# Altium footprint library ERJ8EN_250mW.PcbLib: 3 footprints
Each footprint in its own frame and in the unit in brackets; x right, y up, seen from the top. Pads: shape width x height; smd on the part's side, far side on the other; paste and mask are expansions set on the pad; w line width, h text height; cw(c..) or ccw(c..) is an arc to the next point about the centre after c.
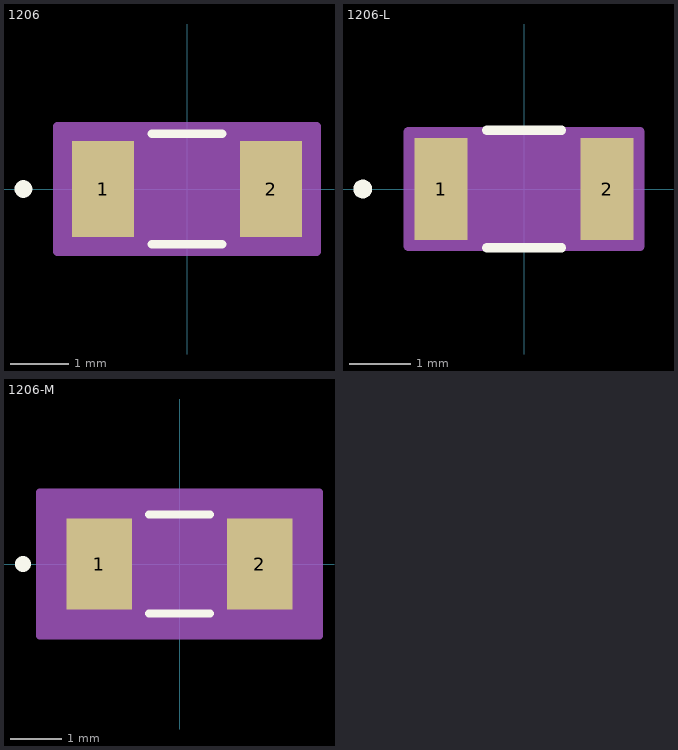
[diagram p0: the footprints below, top view; thin cyan lines are the x and y axes]

## 1206 [mil]
pads (2):
  rect 42x65 smd paste+0 mask+0: 1(-57,0) 2(57,0)
Top Overlay:
  circle w6: c-111,0 r3
  lines w6: -23.89,-37.5 23.89,-37.5 ; -23.89,37.5 23.89,37.5
Mechanical 13:
  circle w0: c-54,0 r3
  lines w1: -64,-32.5 -64,32.5 ; -64,-32.5 -36,-32.5 -36,32.5 -64,32.5 ; -64,-32.5 64,-32.5 ; -64,-32.5 -64,32.5 ; -64,32.5 64,32.5 ; 64,-32.5 36,-32.5 36,32.5 64,32.5 ; 64,-32.5 64,32.5 ; 64,-32.5 64,32.5
Mechanical 15:
  region: 88,-42.5 -88,-42.5 -88,42.5 88,42.5
  lines w6: -88,-42.5 -88,42.5 88,42.5 88,-42.5 -88,-42.5
3D body: height 10, standoff 0, extent 0,0 10,10

## 1206-L [mil]
pads (2):
  rect 34x65 smd paste+0 mask+0: 1(-53,0) 2(53,0)
Top Overlay:
  circle w6: c-103,0 r3
  lines w6: -23.89,-37.5 23.89,-37.5 ; -23.89,37.5 23.89,37.5
Mechanical 13:
  circle w0: c-54,0 r3
  lines w1: -64,-32.5 -64,32.5 ; -64,-32.5 -36,-32.5 -36,32.5 -64,32.5 ; -64,-32.5 64,-32.5 ; -64,-32.5 -64,32.5 ; -64,32.5 64,32.5 ; 64,-32.5 36,-32.5 36,32.5 64,32.5 ; 64,-32.5 64,32.5 ; 64,-32.5 64,32.5
Mechanical 15:
  region: 74,-36.5 -74,-36.5 -74,36.5 74,36.5
  lines w6: -74,-36.5 -74,36.5 74,36.5 74,-36.5 -74,-36.5
3D body: height 10, standoff 0, extent 0,0 10,10

## 1206-M [mil]
pads (2):
  rect 50x69 smd paste+0 mask+0: 1(-61,0) 2(61,0)
Top Overlay:
  circle w6: c-119,0 r3
  lines w6: -23.25,-37.5 23.25,-37.5 ; -23.25,37.5 23.25,37.5
Mechanical 13:
  circle w0: c-54,0 r3
  lines w1: -64,-32.5 -64,32.5 ; -64,-32.5 -36,-32.5 -36,32.5 -64,32.5 ; -64,-32.5 64,-32.5 ; -64,-32.5 -64,32.5 ; -64,32.5 64,32.5 ; 64,-32.5 36,-32.5 36,32.5 64,32.5 ; 64,-32.5 64,32.5 ; 64,-32.5 64,32.5
Mechanical 15:
  region: 106,-54.5 -106,-54.5 -106,54.5 106,54.5
  lines w6: -106,-54.5 -106,54.5 106,54.5 106,-54.5 -106,-54.5
3D body: height 10, standoff 0, extent 0,0 10,10